# Altium integrated library TI_Logic_Flip-Flop,Latch,Register.IntLib: 2598 symbols (part 113 of 122)
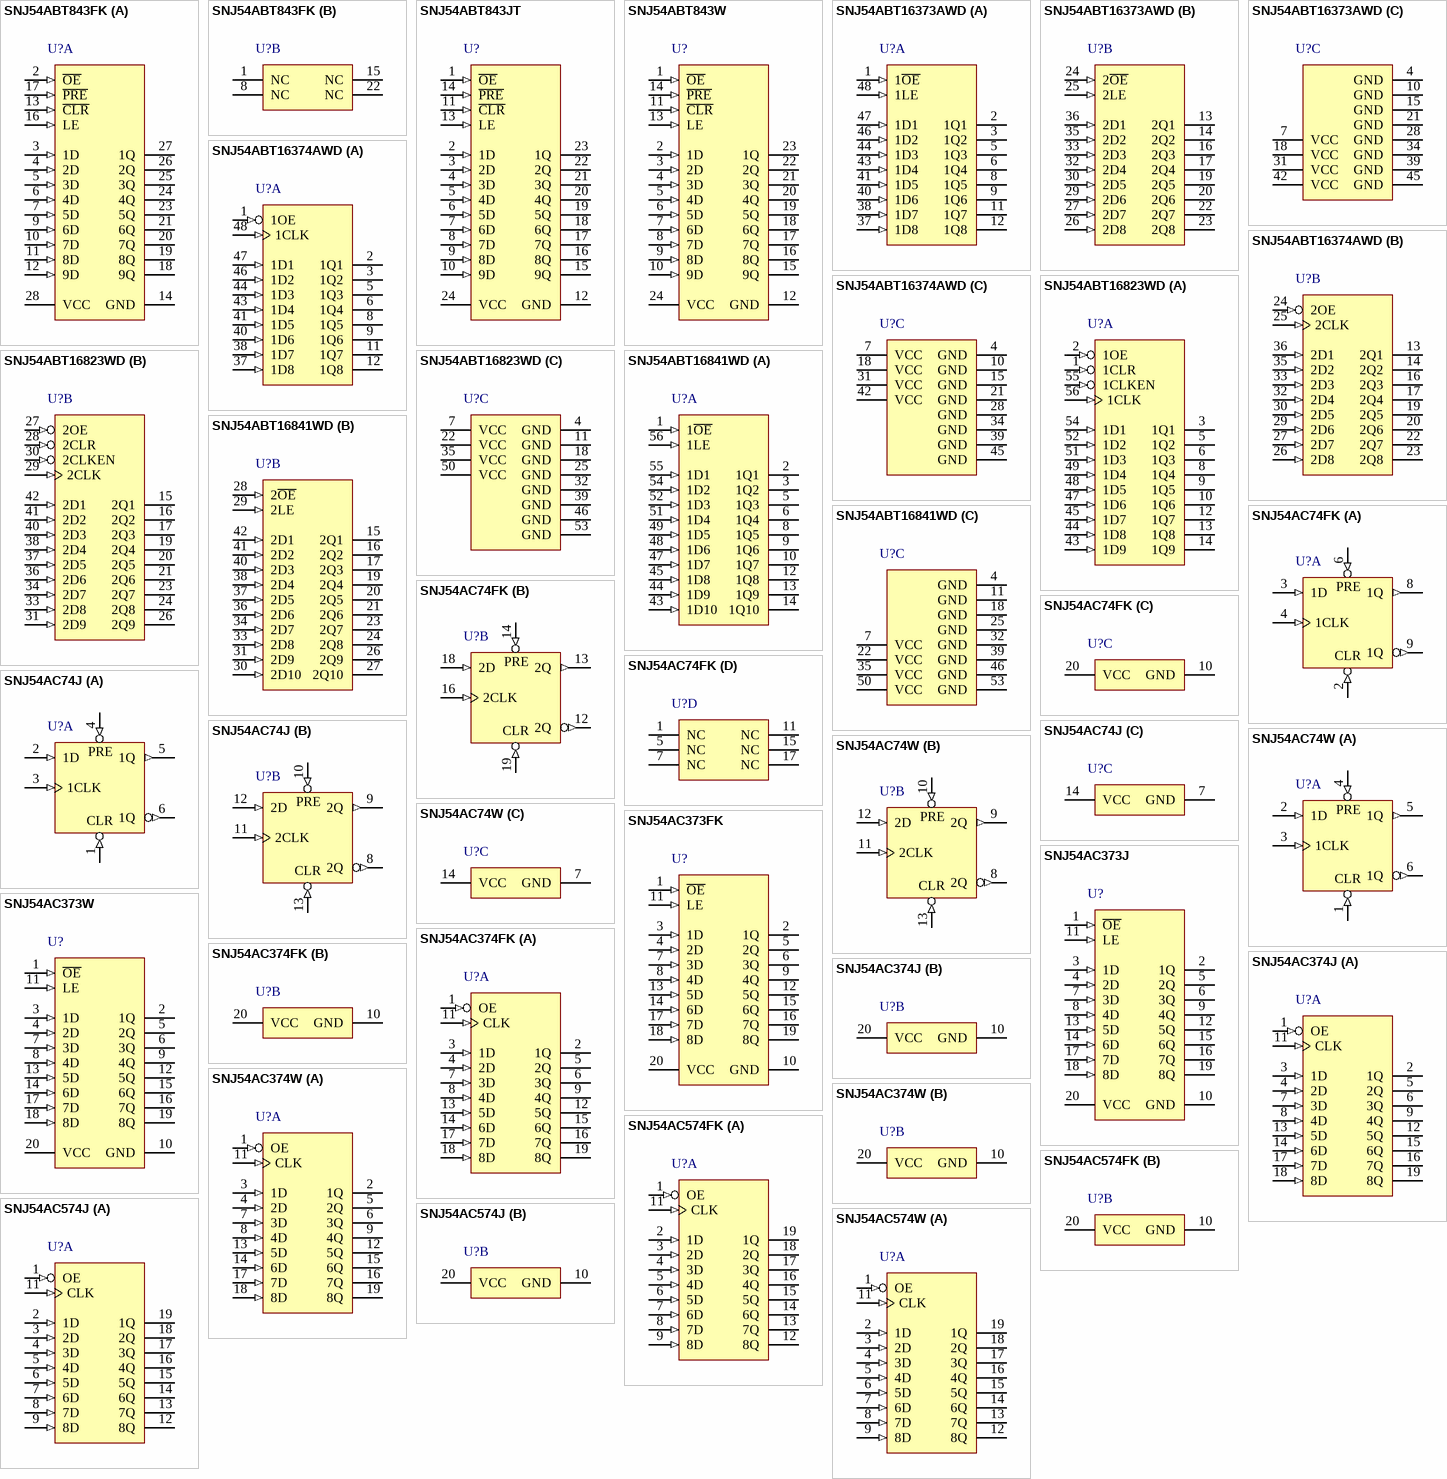
[diagram p251: symbols SNJ54ABT843FK to SNJ54AC574W]

## SNJ54ABT16841WD
designator U?
20-Bit Bus-Interface D-type Latches With 3-State Outputs, WD0056A, TUBE; Generic Part Number: SN54ABT16841; Manufacturer: Texas Instruments; PartNumber: SNJ54ABT16841WD; VCC(Min)(V): 4.5; VCC(Max)(V): 5.5; Output Type: TTL; Logic: True; ICC @ Nom Voltage(Max)(mA): 89; Bits(#): 20; F @ Nom Voltage(Max)(Mhz): 150; Rating: Military; Technology Family: ABT; Schmitt Trigger: No; Output Drive (IOL/IOH)(Max)(mA): 64/-32; Output Logic: Non-inverted; 3-State Output: Yes; tpd @ Nom Voltage(Max)(ns): 5.1; DatasheetVersion: SCBS222C; PackageReference: WD0056A; Input Type: TTL; Operating Temperature Range(C): -55 to 125; ComponentLink1Description: Manufacturer URL; ComponentLink1URL: http://www.ti.com/; ComponentLink2Description: Datasheet; ComponentLink2URL: http://www.ti.com/lit/ds/symlink/sn54abt16841.pdf; ComponentLink3Description: Package Specification; ComponentLink3URL: http://www.ti.com/lit/ml/mcfp010b/mcfp010b.pdf
footprint WD0056A_N (CFP, 56-Leads, Body 18.03x9.91mm, Pitch 0.635mm, IPC Medium Density)
footprint WD0056A_M (CFP, 56-Leads, Body 18.03x9.91mm, Pitch 0.635mm, IPC Low Density)
footprint WD0056A_L (CFP, 56-Leads, Body 18.03x9.91mm, Pitch 0.635mm, IPC High Density)
part A pins: 1 1~{OE} (in) "Output Enable Input (Active LOW)", 2 1Q1 (hiz) "Three-State Outputs", 3 1Q2 (hiz) "Three-State Outputs", 5 1Q3 (hiz) "Three-State Outputs", 6 1Q4 (hiz) "Three-State Outputs", 8 1Q5 (hiz) "Three-State Outputs", 9 1Q6 (hiz) "Three-State Outputs", 10 1Q7 (hiz) "Three-State Outputs", 12 1Q8 (hiz) "Three-State Outputs", 13 1Q9 (hiz) "Three-State Outputs", 14 1Q10 (hiz) "Three-State Outputs", 43 1D10 (in) "Data Inputs", 44 1D9 (in) "Data Inputs", 45 1D8 (in) "Data Inputs", 47 1D7 (in) "Data Inputs", 48 1D6 (in) "Data Inputs", 49 1D5 (in) "Data Inputs", 51 1D4 (in) "Data Inputs", 52 1D3 (in) "Data Inputs", 54 1D2 (in) "Data Inputs", 55 1D1 (in) "Data Inputs", 56 1LE (in) "Latch Enable Input (Active HIGH)"
part B pins: 15 2Q1 (hiz) "Three-State Outputs", 16 2Q2 (hiz) "Three-State Outputs", 17 2Q3 (hiz) "Three-State Outputs", 19 2Q4 (hiz) "Three-State Outputs", 20 2Q5 (hiz) "Three-State Outputs", 21 2Q6 (hiz) "Three-State Outputs", 23 2Q7 (hiz) "Three-State Outputs", 24 2Q8 (hiz) "Three-State Outputs", 26 2Q9 (hiz) "Three-State Outputs", 27 2Q10 (hiz) "Three-State Outputs", 28 2~{OE} (in) "Output Enable Input (Active LOW)", 29 2LE (in) "Latch Enable Input (Active HIGH)", 30 2D10 (in) "Data Inputs", 31 2D9 (in) "Data Inputs", 33 2D8 (in) "Data Inputs", 34 2D7 (in) "Data Inputs", 36 2D6 (in) "Data Inputs", 37 2D5 (in) "Data Inputs", 38 2D4 (in) "Data Inputs", 40 2D3 (in) "Data Inputs", 41 2D2 (in) "Data Inputs", 42 2D1 (in) "Data Inputs"
part C pins: 4 GND (power), 7 VCC (power), 11 GND (power), 18 GND (power), 22 VCC (power), 25 GND (power), 32 GND (power), 35 VCC (power), 39 GND (power), 46 GND (power), 50 VCC (power), 53 GND (power)

## SNJ54AC74FK
designator U?
Dual Positive-Edge-Triggered D-Type- Flip-Flops With Clear And Preset, FK0020A, TUBE; Generic Part Number: SN54AC74; Manufacturer: Texas Instruments; PartNumber: SNJ54AC74FK; VCC(Min)(V): 2; VCC(Max)(V): 6; Output Type: CMOS; Output: 3S; ICC @ Nom Voltage(Max)(mA): 0.02; F @ Nom Voltage(Max)(Mhz): 100; Rating: Military; Technology Family: AC; Voltage(Nom)(V): 3.3,5; Schmitt Trigger: No; Output Drive (IOL/IOH)(Max)(mA): 24/-24; Output Logic: Inverted,Non-inverted; tpd @ Nom Voltage(Max)(ns): 13.5,10.5; DatasheetVersion: SCAS521F; PackageReference: FK0020A; Input Type: CMOS; Bits(#): 2; Operating Temperature Range(C): -55 to 125; 3-State Output: No; Code_JEDEC: MS-004; ComponentLink1Description: Manufacturer URL; ComponentLink1URL: http://www.ti.com/; ComponentLink2Description: Datasheet; ComponentLink2URL: http://www.ti.com/lit/ds/symlink/sn54ac74.pdf; ComponentLink3Description: Package Specification; ComponentLink3URL: http://www.ti.com/lit/ml/mlcc006d/mlcc006d.pdf
footprint FK0020A_N (LCC, 20-Leads, Body 8.9x8.9mm, Pitch 1.27mm, IPC Medium Density)
footprint FK0020A_M (LCC, 20-Leads, Body 8.9x8.9mm, Pitch 1.27mm, IPC Low Density)
footprint FK0020A_L (LCC, 20-Leads, Body 8.9x8.9mm, Pitch 1.27mm, IPC High Density)
part A pins: 2 1~{CLR} (in), 3 1D (in), 4 1CLK (in), 6 1~{PRE} (in), 8 1Q (out), 9 1Q (out)
part B pins: 12 2Q (out), 13 2Q (out), 14 2~{PRE} (in), 16 2CLK (in), 18 2D (in), 19 2~{CLR} (in)
part C pins: 10 GND (power), 20 VCC (power)
part D pins: 1 NC, 5 NC, 7 NC, 11 NC, 15 NC, 17 NC
part A text: PRE; CLR
part B text: PRE; CLR

## SNJ54AC74J
designator U?
Dual Positive-Edge-Triggered D-Type- Flip-Flops With Clear And Preset, J0014A, TUBE; Generic Part Number: SN54AC74; Manufacturer: Texas Instruments; PartNumber: SNJ54AC74J; VCC(Min)(V): 2; VCC(Max)(V): 6; Output Type: CMOS; Output: 3S; ICC @ Nom Voltage(Max)(mA): 0.02; F @ Nom Voltage(Max)(Mhz): 100; Rating: Military; Technology Family: AC; Voltage(Nom)(V): 3.3,5; Schmitt Trigger: No; Output Drive (IOL/IOH)(Max)(mA): 24/-24; Output Logic: Inverted,Non-inverted; tpd @ Nom Voltage(Max)(ns): 13.5,10.5; DatasheetVersion: SCAS521F; PackageReference: J0014A; Input Type: CMOS; Bits(#): 2; Operating Temperature Range(C): -55 to 125; 3-State Output: No; ComponentLink1Description: Manufacturer URL; ComponentLink1URL: http://www.ti.com/; ComponentLink2Description: Datasheet; ComponentLink2URL: http://www.ti.com/lit/ds/symlink/sn54ac74.pdf; ComponentLink3Description: Package Specification; ComponentLink3URL: http://www.ti.com/lit/ml/mcer002d/mcer002d.pdf
footprint J0014A (DIP, 14-Leads, Body 19.95x7.2mm, Pitch 2.54mm)
part A pins: 1 1~{CLR} (in), 2 1D (in), 3 1CLK (in), 4 1~{PRE} (in), 5 1Q (out), 6 1Q (out)
part B pins: 8 2Q (out), 9 2Q (out), 10 2~{PRE} (in), 11 2CLK (in), 12 2D (in), 13 2~{CLR} (in)
part C pins: 7 GND (power), 14 VCC (power)
part A text: PRE; CLR
part B text: PRE; CLR

## SNJ54AC74W
designator U?
Dual Positive-Edge-Triggered D-Type- Flip-Flops With Clear And Preset, W0014A, TUBE; Generic Part Number: SN54AC74; Manufacturer: Texas Instruments; PartNumber: SNJ54AC74W; VCC(Min)(V): 2; VCC(Max)(V): 6; Output Type: CMOS; Output: 3S; ICC @ Nom Voltage(Max)(mA): 0.02; F @ Nom Voltage(Max)(Mhz): 100; Rating: Military; Technology Family: AC; Voltage(Nom)(V): 3.3,5; Schmitt Trigger: No; Output Drive (IOL/IOH)(Max)(mA): 24/-24; Output Logic: Inverted,Non-inverted; tpd @ Nom Voltage(Max)(ns): 13.5,10.5; DatasheetVersion: SCAS521F; PackageReference: W0014A; Input Type: CMOS; Bits(#): 2; Operating Temperature Range(C): -55 to 125; 3-State Output: No; ComponentLink1Description: Manufacturer URL; ComponentLink1URL: http://www.ti.com/; ComponentLink2Description: Datasheet; ComponentLink2URL: http://www.ti.com/lit/ds/symlink/sn54ac74.pdf; ComponentLink3Description: Package Specification; ComponentLink3URL: http://www.ti.com/lit/ml/mcfp002c/mcfp002c.pdf
footprint W0014A_N (CFP, 14-Leads, Body 9.91x6.6mm, Pitch 1.27mm, IPC Medium Density)
footprint W0014A_M (CFP, 14-Leads, Body 9.91x6.6mm, Pitch 1.27mm, IPC Low Density)
footprint W0014A_L (CFP, 14-Leads, Body 9.91x6.6mm, Pitch 1.27mm, IPC High Density)
part A pins: 1 1~{CLR} (in), 2 1D (in), 3 1CLK (in), 4 1~{PRE} (in), 5 1Q (out), 6 1Q (out)
part B pins: 8 2Q (out), 9 2Q (out), 10 2~{PRE} (in), 11 2CLK (in), 12 2D (in), 13 2~{CLR} (in)
part C pins: 7 GND (power), 14 VCC (power)
part A text: PRE; CLR
part B text: PRE; CLR

## SNJ54AC373FK
designator U?
Octal D-type Transparent Latches With 3-State Outputs, FK0020A, TUBE; Generic Part Number: SN54AC373; Manufacturer: Texas Instruments; PartNumber: SNJ54AC373FK; VCC(Min)(V): 2; VCC(Max)(V): 6; Output Type: CMOS; Logic: True; ICC @ Nom Voltage(Max)(mA): 0.08; Bits(#): 8; F @ Nom Voltage(Max)(Mhz): 100; Rating: Military; Technology Family: AC; Voltage(Nom)(V): 3.3,5; Schmitt Trigger: No; Output Drive (IOL/IOH)(Max)(mA): 24/-24; Output Logic: Non-inverted; 3-State Output: Yes; tpd @ Nom Voltage(Max)(ns): 15,10.5; DatasheetVersion: SCAS540D; PackageReference: FK0020A; Input Type: CMOS; Operating Temperature Range(C): -55 to 125; Code_JEDEC: MS-004; ComponentLink1Description: Manufacturer URL; ComponentLink1URL: http://www.ti.com/; ComponentLink2Description: Datasheet; ComponentLink2URL: http://www.ti.com/lit/ds/symlink/sn54ac373.pdf; ComponentLink3Description: Package Specification; ComponentLink3URL: http://www.ti.com/lit/ml/mlcc006d/mlcc006d.pdf
footprint FK0020A_N (LCC, 20-Leads, Body 8.9x8.9mm, Pitch 1.27mm, IPC Medium Density)
footprint FK0020A_M (LCC, 20-Leads, Body 8.9x8.9mm, Pitch 1.27mm, IPC Low Density)
footprint FK0020A_L (LCC, 20-Leads, Body 8.9x8.9mm, Pitch 1.27mm, IPC High Density)
pins: 1 ~{OE} (in) "Output Enable", 2 1Q (hiz) "1Q Output", 3 1D (in) "1D Input", 4 2D (in) "2D Input", 5 2Q (hiz) "2Q Output", 6 3Q (hiz) "3Q Output", 7 3D (in) "3D Input", 8 4D (in) "4D Input", 9 4Q (hiz) "4Q Output", 10 GND (power) "Ground Pin", 11 LE (in) "Latch Enable", 12 5Q (hiz) "5Q Output", 13 5D (in) "5D Input", 14 6D (in) "6D Input", 15 6Q (hiz) "6Q Output", 16 7Q (hiz) "7Q Output", 17 7D (in) "7D Input", 18 8D (in) "8D Input", 19 8Q (hiz) "8Q Output", 20 VCC (power) "Power Pin"

## SNJ54AC373J
designator U?
Octal D-type Transparent Latches With 3-State Outputs, J0020A, TUBE; Generic Part Number: SN54AC373; Manufacturer: Texas Instruments; PartNumber: SNJ54AC373J; VCC(Min)(V): 2; VCC(Max)(V): 6; Output Type: CMOS; Logic: True; ICC @ Nom Voltage(Max)(mA): 0.08; Bits(#): 8; F @ Nom Voltage(Max)(Mhz): 100; Rating: Military; Technology Family: AC; Voltage(Nom)(V): 3.3,5; Schmitt Trigger: No; Output Drive (IOL/IOH)(Max)(mA): 24/-24; Output Logic: Non-inverted; 3-State Output: Yes; tpd @ Nom Voltage(Max)(ns): 15,10.5; DatasheetVersion: SCAS540D; PackageReference: J0020A; Input Type: CMOS; Operating Temperature Range(C): -55 to 125; ComponentLink1Description: Manufacturer URL; ComponentLink1URL: http://www.ti.com/; ComponentLink2Description: Datasheet; ComponentLink2URL: http://www.ti.com/lit/ds/symlink/sn54ac373.pdf; ComponentLink3Description: Package Specification; ComponentLink3URL: http://www.ti.com/lit/ml/mcer002d/mcer002d.pdf
footprint J0020A (DIP, 20-Leads, Body 26.9x7.2mm, Pitch 2.54mm)
pins: 1 ~{OE} (in) "Output Enable", 2 1Q (hiz) "1Q Output", 3 1D (in) "1D Input", 4 2D (in) "2D Input", 5 2Q (hiz) "2Q Output", 6 3Q (hiz) "3Q Output", 7 3D (in) "3D Input", 8 4D (in) "4D Input", 9 4Q (hiz) "4Q Output", 10 GND (power) "Ground Pin", 11 LE (in) "Latch Enable", 12 5Q (hiz) "5Q Output", 13 5D (in) "5D Input", 14 6D (in) "6D Input", 15 6Q (hiz) "6Q Output", 16 7Q (hiz) "7Q Output", 17 7D (in) "7D Input", 18 8D (in) "8D Input", 19 8Q (hiz) "8Q Output", 20 VCC (power) "Power Pin"

## SNJ54AC373W
designator U?
Octal D-type Transparent Latches With 3-State Outputs, W0020A, TUBE; Generic Part Number: SN54AC373; Manufacturer: Texas Instruments; PartNumber: SNJ54AC373W; VCC(Min)(V): 2; VCC(Max)(V): 6; Output Type: CMOS; Logic: True; ICC @ Nom Voltage(Max)(mA): 0.08; Bits(#): 8; F @ Nom Voltage(Max)(Mhz): 100; Rating: Military; Technology Family: AC; Voltage(Nom)(V): 3.3,5; Schmitt Trigger: No; Output Drive (IOL/IOH)(Max)(mA): 24/-24; Output Logic: Non-inverted; 3-State Output: Yes; tpd @ Nom Voltage(Max)(ns): 15,10.5; DatasheetVersion: SCAS540D; PackageReference: W0020A; Input Type: CMOS; Operating Temperature Range(C): -55 to 125; ComponentLink1Description: Manufacturer URL; ComponentLink1URL: http://www.ti.com/; ComponentLink2Description: Datasheet; ComponentLink2URL: http://www.ti.com/lit/ds/symlink/sn54ac373.pdf; ComponentLink3Description: Package Specification; ComponentLink3URL: http://www.ti.com/lit/ml/mcfp006d/mcfp006d.pdf
footprint W0020A_N (CFP, 20-Leads, Body 13.72x7.62mm, Pitch 1.27mm, IPC Medium Density)
footprint W0020A_M (CFP, 20-Leads, Body 13.72x7.62mm, Pitch 1.27mm, IPC Low Density)
footprint W0020A_L (CFP, 20-Leads, Body 13.72x7.62mm, Pitch 1.27mm, IPC High Density)
pins: 1 ~{OE} (in) "Output Enable", 2 1Q (hiz) "1Q Output", 3 1D (in) "1D Input", 4 2D (in) "2D Input", 5 2Q (hiz) "2Q Output", 6 3Q (hiz) "3Q Output", 7 3D (in) "3D Input", 8 4D (in) "4D Input", 9 4Q (hiz) "4Q Output", 10 GND (power) "Ground Pin", 11 LE (in) "Latch Enable", 12 5Q (hiz) "5Q Output", 13 5D (in) "5D Input", 14 6D (in) "6D Input", 15 6Q (hiz) "6Q Output", 16 7Q (hiz) "7Q Output", 17 7D (in) "7D Input", 18 8D (in) "8D Input", 19 8Q (hiz) "8Q Output", 20 VCC (power) "Power Pin"

## SNJ54AC374FK
designator U?
Octal D-Type Edge-Triggered Flip-Flops with 3-State Outputs, FK0020A, TUBE; Generic Part Number: SN54AC374; Manufacturer: Texas Instruments; PartNumber: SNJ54AC374FK; VCC(Min)(V): 2; VCC(Max)(V): 6; Output Type: CMOS; ICC @ Nom Voltage(Max)(mA): 0.04; Bits(#): 8; F @ Nom Voltage(Max)(Mhz): 100; Rating: Military; Technology Family: AC; Voltage(Nom)(V): 3.3,5; Schmitt Trigger: No; Output Drive (IOL/IOH)(Max)(mA): 24/-24; Output Logic: Non-inverted; 3-State Output: Yes; tpd @ Nom Voltage(Max)(ns): 14,10.5; DatasheetVersion: SCAS543E; PackageReference: FK0020A; Input Type: CMOS; Operating Temperature Range(C): -55 to 125; Code_JEDEC: MS-004; ComponentLink1Description: Manufacturer URL; ComponentLink1URL: http://www.ti.com/; ComponentLink2Description: Datasheet; ComponentLink2URL: http://www.ti.com/lit/ds/symlink/sn54ac374.pdf; ComponentLink3Description: Package Specification; ComponentLink3URL: http://www.ti.com/lit/ml/mlcc006d/mlcc006d.pdf
footprint FK0020A_N (LCC, 20-Leads, Body 8.9x8.9mm, Pitch 1.27mm, IPC Medium Density)
footprint FK0020A_M (LCC, 20-Leads, Body 8.9x8.9mm, Pitch 1.27mm, IPC Low Density)
footprint FK0020A_L (LCC, 20-Leads, Body 8.9x8.9mm, Pitch 1.27mm, IPC High Density)
part A pins: 1 OE (in), 2 1Q (hiz), 3 1D (in), 4 2D (in), 5 2Q (hiz), 6 3Q (hiz), 7 3D (in), 8 4D (in), 9 4Q (hiz), 11 CLK (in), 12 5Q (hiz), 13 5D (in), 14 6D (in), 15 6Q (hiz), 16 7Q (hiz), 17 7D (in), 18 8D (in), 19 8Q (hiz)
part B pins: 10 GND (power), 20 VCC (power)

## SNJ54AC374J
designator U?
Octal D-Type Edge-Triggered Flip-Flops with 3-State Outputs, J0020A, TUBE; Generic Part Number: SN54AC374; Manufacturer: Texas Instruments; PartNumber: SNJ54AC374J; VCC(Min)(V): 2; VCC(Max)(V): 6; Output Type: CMOS; ICC @ Nom Voltage(Max)(mA): 0.04; Bits(#): 8; F @ Nom Voltage(Max)(Mhz): 100; Rating: Military; Technology Family: AC; Voltage(Nom)(V): 3.3,5; Schmitt Trigger: No; Output Drive (IOL/IOH)(Max)(mA): 24/-24; Output Logic: Non-inverted; 3-State Output: Yes; tpd @ Nom Voltage(Max)(ns): 14,10.5; DatasheetVersion: SCAS543E; PackageReference: J0020A; Input Type: CMOS; Operating Temperature Range(C): -55 to 125; ComponentLink1Description: Manufacturer URL; ComponentLink1URL: http://www.ti.com/; ComponentLink2Description: Datasheet; ComponentLink2URL: http://www.ti.com/lit/ds/symlink/sn54ac374.pdf; ComponentLink3Description: Package Specification; ComponentLink3URL: http://www.ti.com/lit/ml/mcer002d/mcer002d.pdf
footprint J0020A (DIP, 20-Leads, Body 26.9x7.2mm, Pitch 2.54mm)
part A pins: 1 OE (in), 2 1Q (hiz), 3 1D (in), 4 2D (in), 5 2Q (hiz), 6 3Q (hiz), 7 3D (in), 8 4D (in), 9 4Q (hiz), 11 CLK (in), 12 5Q (hiz), 13 5D (in), 14 6D (in), 15 6Q (hiz), 16 7Q (hiz), 17 7D (in), 18 8D (in), 19 8Q (hiz)
part B pins: 10 GND (power), 20 VCC (power)

## SNJ54AC374W
designator U?
Octal D-Type Edge-Triggered Flip-Flops with 3-State Outputs, W0020A, TUBE; Generic Part Number: SN54AC374; Manufacturer: Texas Instruments; PartNumber: SNJ54AC374W; VCC(Min)(V): 2; VCC(Max)(V): 6; Output Type: CMOS; ICC @ Nom Voltage(Max)(mA): 0.04; Bits(#): 8; F @ Nom Voltage(Max)(Mhz): 100; Rating: Military; Technology Family: AC; Voltage(Nom)(V): 3.3,5; Schmitt Trigger: No; Output Drive (IOL/IOH)(Max)(mA): 24/-24; Output Logic: Non-inverted; 3-State Output: Yes; tpd @ Nom Voltage(Max)(ns): 14,10.5; DatasheetVersion: SCAS543E; PackageReference: W0020A; Input Type: CMOS; Operating Temperature Range(C): -55 to 125; ComponentLink1Description: Manufacturer URL; ComponentLink1URL: http://www.ti.com/; ComponentLink2Description: Datasheet; ComponentLink2URL: http://www.ti.com/lit/ds/symlink/sn54ac374.pdf; ComponentLink3Description: Package Specification; ComponentLink3URL: http://www.ti.com/lit/ml/mcfp006d/mcfp006d.pdf
footprint W0020A_N (CFP, 20-Leads, Body 13.72x7.62mm, Pitch 1.27mm, IPC Medium Density)
footprint W0020A_M (CFP, 20-Leads, Body 13.72x7.62mm, Pitch 1.27mm, IPC Low Density)
footprint W0020A_L (CFP, 20-Leads, Body 13.72x7.62mm, Pitch 1.27mm, IPC High Density)
part A pins: 1 OE (in), 2 1Q (hiz), 3 1D (in), 4 2D (in), 5 2Q (hiz), 6 3Q (hiz), 7 3D (in), 8 4D (in), 9 4Q (hiz), 11 CLK (in), 12 5Q (hiz), 13 5D (in), 14 6D (in), 15 6Q (hiz), 16 7Q (hiz), 17 7D (in), 18 8D (in), 19 8Q (hiz)
part B pins: 10 GND (power), 20 VCC (power)

## SNJ54AC574FK
designator U?
Octal D-type Edge-Triggered Flip-Flops with 3-State Outputs, FK0020A, TUBE; Generic Part Number: SN54AC574; Manufacturer: Texas Instruments; PartNumber: SNJ54AC574FK; VCC(Min)(V): 2; VCC(Max)(V): 6; Output Type: CMOS; ICC @ Nom Voltage(Max)(mA): 0.04; Bits(#): 8; F @ Nom Voltage(Max)(Mhz): 100; Rating: Military; Technology Family: AC; Voltage(Nom)(V): 3.3,5; Schmitt Trigger: No; Output Drive (IOL/IOH)(Max)(mA): 24/-24; Output Logic: Non-inverted; 3-State Output: Yes; tpd @ Nom Voltage(Max)(ns): 15,11; DatasheetVersion: SCAS541E; PackageReference: FK0020A; Input Type: CMOS; Operating Temperature Range(C): -55 to 125; Code_JEDEC: MS-004; ComponentLink1Description: Manufacturer URL; ComponentLink1URL: http://www.ti.com/; ComponentLink2Description: Datasheet; ComponentLink2URL: http://www.ti.com/lit/ds/symlink/sn54ac574.pdf; ComponentLink3Description: Package Specification; ComponentLink3URL: http://www.ti.com/lit/ml/mlcc006d/mlcc006d.pdf
footprint FK0020A_N (LCC, 20-Leads, Body 8.9x8.9mm, Pitch 1.27mm, IPC Medium Density)
footprint FK0020A_M (LCC, 20-Leads, Body 8.9x8.9mm, Pitch 1.27mm, IPC Low Density)
footprint FK0020A_L (LCC, 20-Leads, Body 8.9x8.9mm, Pitch 1.27mm, IPC High Density)
part A pins: 1 OE (in), 2 1D (in), 3 2D (in), 4 3D (in), 5 4D (in), 6 5D (in), 7 6D (in), 8 7D (in), 9 8D (in), 11 CLK (in), 12 8Q (hiz), 13 7Q (hiz), 14 6Q (hiz), 15 5Q (hiz), 16 4Q (hiz), 17 3Q (hiz), 18 2Q (hiz), 19 1Q (hiz)
part B pins: 10 GND (power), 20 VCC (power)

## SNJ54AC574J
designator U?
Octal D-type Edge-Triggered Flip-Flops with 3-State Outputs, J0020A, TUBE; Generic Part Number: SN54AC574; Manufacturer: Texas Instruments; PartNumber: SNJ54AC574J; VCC(Min)(V): 2; VCC(Max)(V): 6; Output Type: CMOS; ICC @ Nom Voltage(Max)(mA): 0.04; Bits(#): 8; F @ Nom Voltage(Max)(Mhz): 100; Rating: Military; Technology Family: AC; Voltage(Nom)(V): 3.3,5; Schmitt Trigger: No; Output Drive (IOL/IOH)(Max)(mA): 24/-24; Output Logic: Non-inverted; 3-State Output: Yes; tpd @ Nom Voltage(Max)(ns): 15,11; DatasheetVersion: SCAS541E; PackageReference: J0020A; Input Type: CMOS; Operating Temperature Range(C): -55 to 125; ComponentLink1Description: Manufacturer URL; ComponentLink1URL: http://www.ti.com/; ComponentLink2Description: Datasheet; ComponentLink2URL: http://www.ti.com/lit/ds/symlink/sn54ac574.pdf; ComponentLink3Description: Package Specification; ComponentLink3URL: http://www.ti.com/lit/ml/mcer002d/mcer002d.pdf
footprint J0020A (DIP, 20-Leads, Body 26.9x7.2mm, Pitch 2.54mm)
part A pins: 1 OE (in), 2 1D (in), 3 2D (in), 4 3D (in), 5 4D (in), 6 5D (in), 7 6D (in), 8 7D (in), 9 8D (in), 11 CLK (in), 12 8Q (hiz), 13 7Q (hiz), 14 6Q (hiz), 15 5Q (hiz), 16 4Q (hiz), 17 3Q (hiz), 18 2Q (hiz), 19 1Q (hiz)
part B pins: 10 GND (power), 20 VCC (power)

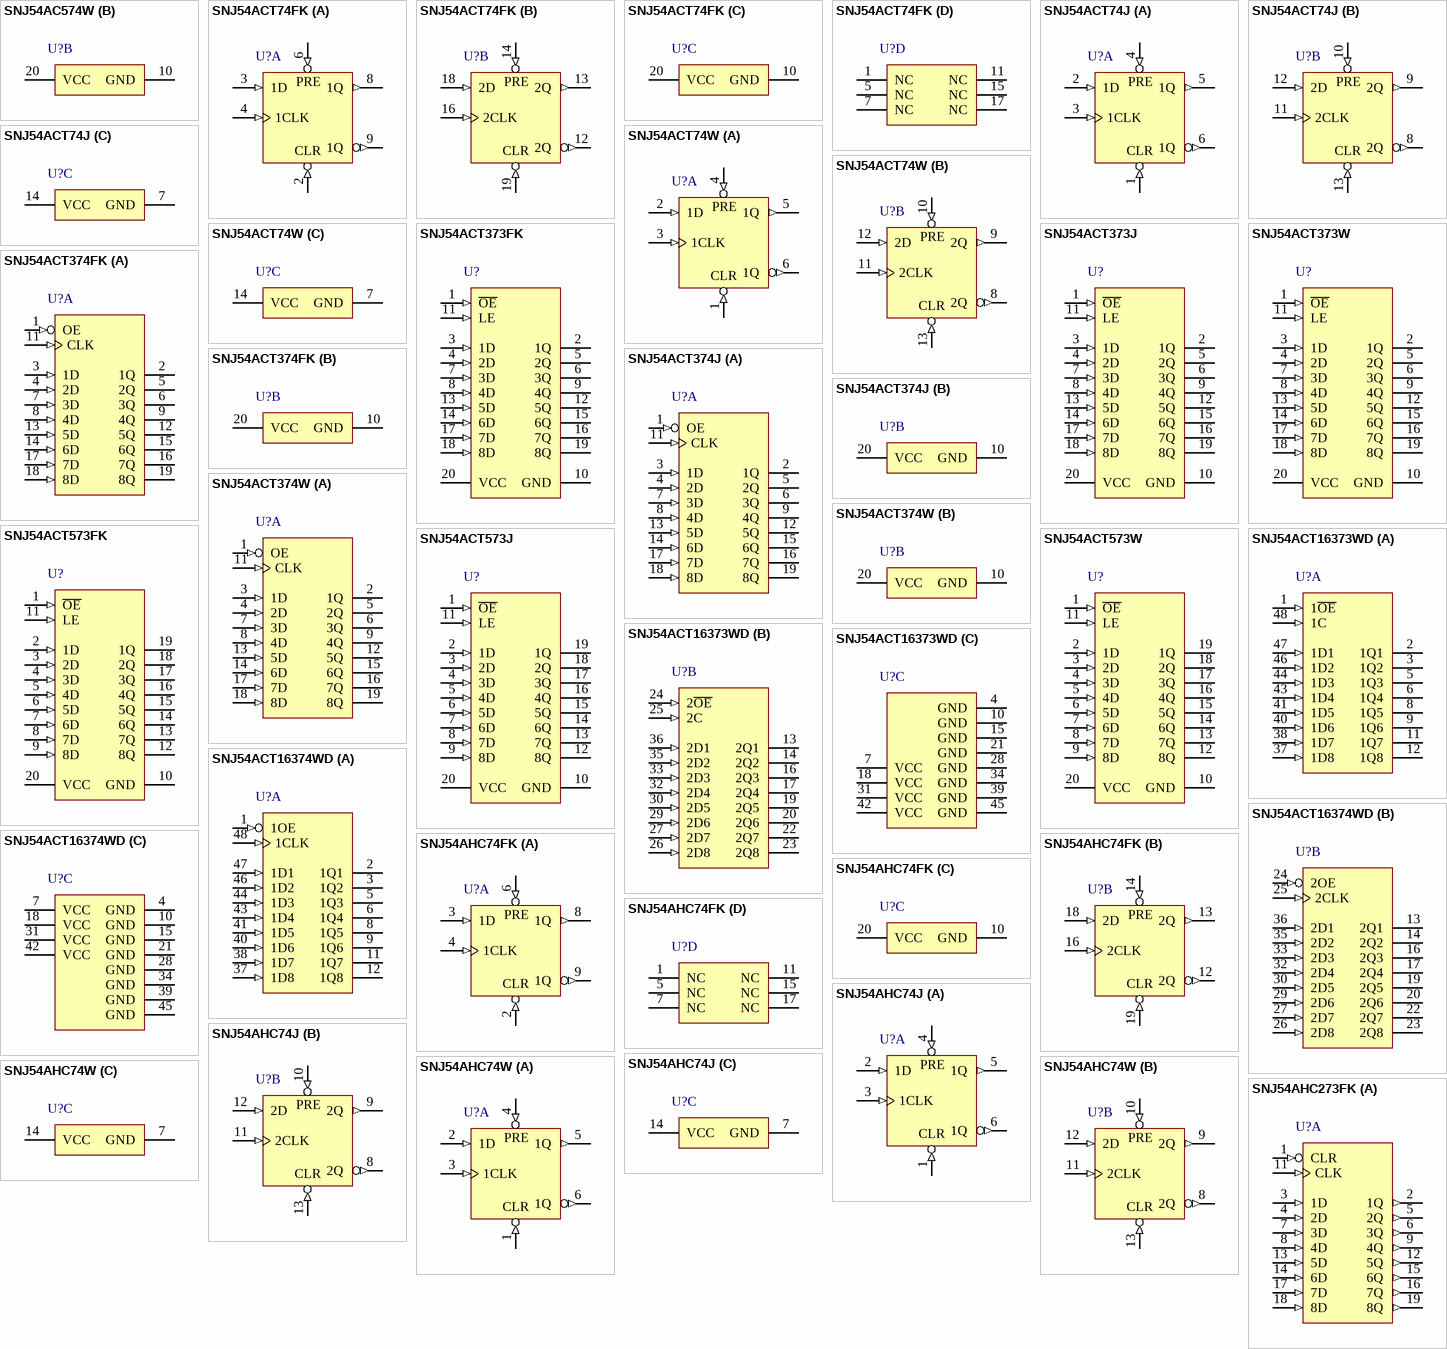
[diagram p123: symbols SNJ54AC574W to SNJ54AHC273FK]

## SNJ54AC574W
designator U?
Octal D-type Edge-Triggered Flip-Flops with 3-State Outputs, W0020A, TUBE; Generic Part Number: SN54AC574; Manufacturer: Texas Instruments; PartNumber: SNJ54AC574W; VCC(Min)(V): 2; VCC(Max)(V): 6; Output Type: CMOS; ICC @ Nom Voltage(Max)(mA): 0.04; Bits(#): 8; F @ Nom Voltage(Max)(Mhz): 100; Rating: Military; Technology Family: AC; Voltage(Nom)(V): 3.3,5; Schmitt Trigger: No; Output Drive (IOL/IOH)(Max)(mA): 24/-24; Output Logic: Non-inverted; 3-State Output: Yes; tpd @ Nom Voltage(Max)(ns): 15,11; DatasheetVersion: SCAS541E; PackageReference: W0020A; Input Type: CMOS; Operating Temperature Range(C): -55 to 125; ComponentLink1Description: Manufacturer URL; ComponentLink1URL: http://www.ti.com/; ComponentLink2Description: Datasheet; ComponentLink2URL: http://www.ti.com/lit/ds/symlink/sn54ac574.pdf; ComponentLink3Description: Package Specification; ComponentLink3URL: http://www.ti.com/lit/ml/mcfp006d/mcfp006d.pdf
footprint W0020A_N (CFP, 20-Leads, Body 13.72x7.62mm, Pitch 1.27mm, IPC Medium Density)
footprint W0020A_M (CFP, 20-Leads, Body 13.72x7.62mm, Pitch 1.27mm, IPC Low Density)
footprint W0020A_L (CFP, 20-Leads, Body 13.72x7.62mm, Pitch 1.27mm, IPC High Density)
part A pins: 1 OE (in), 2 1D (in), 3 2D (in), 4 3D (in), 5 4D (in), 6 5D (in), 7 6D (in), 8 7D (in), 9 8D (in), 11 CLK (in), 12 8Q (hiz), 13 7Q (hiz), 14 6Q (hiz), 15 5Q (hiz), 16 4Q (hiz), 17 3Q (hiz), 18 2Q (hiz), 19 1Q (hiz)
part B pins: 10 GND (power), 20 VCC (power)

## SNJ54ACT74FK
designator U?
Dual Positive-Edge-Triggered D-type Flip-Flops With Clear And Preset, FK0020A, TUBE; Generic Part Number: SN54ACT74; Manufacturer: Texas Instruments; PartNumber: SNJ54ACT74FK; VCC(Min)(V): 4.5; VCC(Max)(V): 5.5; Output Type: CMOS; Output: 3S; ICC @ Nom Voltage(Max)(mA): 0.02; Input Type: TTL; Bits(#): 2; F @ Nom Voltage(Max)(Mhz): 100; Rating: Military; Technology Family: ACT; Schmitt Trigger: No; Output Drive (IOL/IOH)(Max)(mA): 24/-24; Output Logic: Inverted,Non-inverted; tpd @ Nom Voltage(Max)(ns): 13; DatasheetVersion: SCAS520H; PackageReference: FK0020A; Operating Temperature Range(C): -55 to 125; 3-State Output: No; Code_JEDEC: MS-004; ComponentLink1Description: Manufacturer URL; ComponentLink1URL: http://www.ti.com/; ComponentLink2Description: Datasheet; ComponentLink2URL: http://www.ti.com/lit/ds/symlink/sn54act74.pdf; ComponentLink3Description: Package Specification; ComponentLink3URL: http://www.ti.com/lit/ml/mlcc006d/mlcc006d.pdf
footprint FK0020A_N (LCC, 20-Leads, Body 8.9x8.9mm, Pitch 1.27mm, IPC Medium Density)
footprint FK0020A_M (LCC, 20-Leads, Body 8.9x8.9mm, Pitch 1.27mm, IPC Low Density)
footprint FK0020A_L (LCC, 20-Leads, Body 8.9x8.9mm, Pitch 1.27mm, IPC High Density)
part A pins: 2 1~{CLR} (in), 3 1D (in), 4 1CLK (in), 6 1~{PRE} (in), 8 1Q (out), 9 1Q (out)
part B pins: 12 2Q (out), 13 2Q (out), 14 2~{PRE} (in), 16 2CLK (in), 18 2D (in), 19 2~{CLR} (in)
part C pins: 10 GND (power), 20 VCC (power)
part D pins: 1 NC, 5 NC, 7 NC, 11 NC, 15 NC, 17 NC
part A text: PRE; CLR
part B text: PRE; CLR

## SNJ54ACT74J
designator U?
Dual Positive-Edge-Triggered D-type Flip-Flops With Clear And Preset, J0014A, TUBE; Generic Part Number: SN54ACT74; Manufacturer: Texas Instruments; PartNumber: SNJ54ACT74J; VCC(Min)(V): 4.5; VCC(Max)(V): 5.5; Output Type: CMOS; Output: 3S; ICC @ Nom Voltage(Max)(mA): 0.02; Input Type: TTL; Bits(#): 2; F @ Nom Voltage(Max)(Mhz): 100; Rating: Military; Technology Family: ACT; Schmitt Trigger: No; Output Drive (IOL/IOH)(Max)(mA): 24/-24; Output Logic: Inverted,Non-inverted; tpd @ Nom Voltage(Max)(ns): 13; DatasheetVersion: SCAS520H; PackageReference: J0014A; Operating Temperature Range(C): -55 to 125; 3-State Output: No; ComponentLink1Description: Manufacturer URL; ComponentLink1URL: http://www.ti.com/; ComponentLink2Description: Datasheet; ComponentLink2URL: http://www.ti.com/lit/ds/symlink/sn54act74.pdf; ComponentLink3Description: Package Specification; ComponentLink3URL: http://www.ti.com/lit/ml/mcer002d/mcer002d.pdf
footprint J0014A (DIP, 14-Leads, Body 19.95x7.2mm, Pitch 2.54mm)
part A pins: 1 1~{CLR} (in), 2 1D (in), 3 1CLK (in), 4 1~{PRE} (in), 5 1Q (out), 6 1Q (out)
part B pins: 8 2Q (out), 9 2Q (out), 10 2~{PRE} (in), 11 2CLK (in), 12 2D (in), 13 2~{CLR} (in)
part C pins: 7 GND (power), 14 VCC (power)
part A text: PRE; CLR
part B text: PRE; CLR

## SNJ54ACT74W
designator U?
Dual Positive-Edge-Triggered D-type Flip-Flops With Clear And Preset, W0014A, TUBE; Generic Part Number: SN54ACT74; Manufacturer: Texas Instruments; PartNumber: SNJ54ACT74W; VCC(Min)(V): 4.5; VCC(Max)(V): 5.5; Output Type: CMOS; Output: 3S; ICC @ Nom Voltage(Max)(mA): 0.02; Input Type: TTL; Bits(#): 2; F @ Nom Voltage(Max)(Mhz): 100; Rating: Military; Technology Family: ACT; Schmitt Trigger: No; Output Drive (IOL/IOH)(Max)(mA): 24/-24; Output Logic: Inverted,Non-inverted; tpd @ Nom Voltage(Max)(ns): 13; DatasheetVersion: SCAS520H; PackageReference: W0014A; Operating Temperature Range(C): -55 to 125; 3-State Output: No; ComponentLink1Description: Manufacturer URL; ComponentLink1URL: http://www.ti.com/; ComponentLink2Description: Datasheet; ComponentLink2URL: http://www.ti.com/lit/ds/symlink/sn54act74.pdf; ComponentLink3Description: Package Specification; ComponentLink3URL: http://www.ti.com/lit/ml/mcfp002c/mcfp002c.pdf
footprint W0014A_N (CFP, 14-Leads, Body 9.91x6.6mm, Pitch 1.27mm, IPC Medium Density)
footprint W0014A_M (CFP, 14-Leads, Body 9.91x6.6mm, Pitch 1.27mm, IPC Low Density)
footprint W0014A_L (CFP, 14-Leads, Body 9.91x6.6mm, Pitch 1.27mm, IPC High Density)
part A pins: 1 1~{CLR} (in), 2 1D (in), 3 1CLK (in), 4 1~{PRE} (in), 5 1Q (out), 6 1Q (out)
part B pins: 8 2Q (out), 9 2Q (out), 10 2~{PRE} (in), 11 2CLK (in), 12 2D (in), 13 2~{CLR} (in)
part C pins: 7 GND (power), 14 VCC (power)
part A text: PRE; CLR
part B text: PRE; CLR

## SNJ54ACT373FK
designator U?
Octal D-type Transparent Latches With 3-State Outputs, FK0020A, TUBE; Generic Part Number: SN54ACT373; Manufacturer: Texas Instruments; PartNumber: SNJ54ACT373FK; VCC(Min)(V): 4.5; VCC(Max)(V): 5.5; Output Type: CMOS; Logic: True; ICC @ Nom Voltage(Max)(mA): 0.04; Input Type: TTL; Bits(#): 8; F @ Nom Voltage(Max)(Mhz): 90; Rating: Military; Technology Family: ACT; Schmitt Trigger: No; Output Drive (IOL/IOH)(Max)(mA): 24/-24; Output Logic: Non-inverted; 3-State Output: Yes; tpd @ Nom Voltage(Max)(ns): 11.5; DatasheetVersion: SCAS544E; PackageReference: FK0020A; Operating Temperature Range(C): -55 to 125; Code_JEDEC: MS-004; ComponentLink1Description: Manufacturer URL; ComponentLink1URL: http://www.ti.com/; ComponentLink2Description: Datasheet; ComponentLink2URL: http://www.ti.com/lit/ds/symlink/sn54act373.pdf; ComponentLink3Description: Package Specification; ComponentLink3URL: http://www.ti.com/lit/ml/mlcc006d/mlcc006d.pdf
footprint FK0020A_N (LCC, 20-Leads, Body 8.9x8.9mm, Pitch 1.27mm, IPC Medium Density)
footprint FK0020A_M (LCC, 20-Leads, Body 8.9x8.9mm, Pitch 1.27mm, IPC Low Density)
footprint FK0020A_L (LCC, 20-Leads, Body 8.9x8.9mm, Pitch 1.27mm, IPC High Density)
pins: 1 ~{OE} (in) "Output Enable", 2 1Q (hiz) "1Q Output", 3 1D (in) "1D Input", 4 2D (in) "2D Input", 5 2Q (hiz) "2Q Output", 6 3Q (hiz) "3Q Output", 7 3D (in) "3D Input", 8 4D (in) "4D Input", 9 4Q (hiz) "4Q Output", 10 GND (power) "Ground Pin", 11 LE (in) "Latch Enable", 12 5Q (hiz) "5Q Output", 13 5D (in) "5D Input", 14 6D (in) "6D Input", 15 6Q (hiz) "6Q Output", 16 7Q (hiz) "7Q Output", 17 7D (in) "7D Input", 18 8D (in) "8D Input", 19 8Q (hiz) "8Q Output", 20 VCC (power) "Power Pin"

## SNJ54ACT373J
designator U?
Octal D-type Transparent Latches With 3-State Outputs, J0020A, TUBE; Generic Part Number: SN54ACT373; Manufacturer: Texas Instruments; PartNumber: SNJ54ACT373J; VCC(Min)(V): 4.5; VCC(Max)(V): 5.5; Output Type: CMOS; Logic: True; ICC @ Nom Voltage(Max)(mA): 0.04; Input Type: TTL; Bits(#): 8; F @ Nom Voltage(Max)(Mhz): 90; Rating: Military; Technology Family: ACT; Schmitt Trigger: No; Output Drive (IOL/IOH)(Max)(mA): 24/-24; Output Logic: Non-inverted; 3-State Output: Yes; tpd @ Nom Voltage(Max)(ns): 11.5; DatasheetVersion: SCAS544E; PackageReference: J0020A; Operating Temperature Range(C): -55 to 125; ComponentLink1Description: Manufacturer URL; ComponentLink1URL: http://www.ti.com/; ComponentLink2Description: Datasheet; ComponentLink2URL: http://www.ti.com/lit/ds/symlink/sn54act373.pdf; ComponentLink3Description: Package Specification; ComponentLink3URL: http://www.ti.com/lit/ml/mcer002d/mcer002d.pdf
footprint J0020A (DIP, 20-Leads, Body 26.9x7.2mm, Pitch 2.54mm)
pins: 1 ~{OE} (in) "Output Enable", 2 1Q (hiz) "1Q Output", 3 1D (in) "1D Input", 4 2D (in) "2D Input", 5 2Q (hiz) "2Q Output", 6 3Q (hiz) "3Q Output", 7 3D (in) "3D Input", 8 4D (in) "4D Input", 9 4Q (hiz) "4Q Output", 10 GND (power) "Ground Pin", 11 LE (in) "Latch Enable", 12 5Q (hiz) "5Q Output", 13 5D (in) "5D Input", 14 6D (in) "6D Input", 15 6Q (hiz) "6Q Output", 16 7Q (hiz) "7Q Output", 17 7D (in) "7D Input", 18 8D (in) "8D Input", 19 8Q (hiz) "8Q Output", 20 VCC (power) "Power Pin"

## SNJ54ACT373W
designator U?
Octal D-type Transparent Latches With 3-State Outputs, W0020A, TUBE; Generic Part Number: SN54ACT373; Manufacturer: Texas Instruments; PartNumber: SNJ54ACT373W; VCC(Min)(V): 4.5; VCC(Max)(V): 5.5; Output Type: CMOS; Logic: True; ICC @ Nom Voltage(Max)(mA): 0.04; Input Type: TTL; Bits(#): 8; F @ Nom Voltage(Max)(Mhz): 90; Rating: Military; Technology Family: ACT; Schmitt Trigger: No; Output Drive (IOL/IOH)(Max)(mA): 24/-24; Output Logic: Non-inverted; 3-State Output: Yes; tpd @ Nom Voltage(Max)(ns): 11.5; DatasheetVersion: SCAS544E; PackageReference: W0020A; Operating Temperature Range(C): -55 to 125; ComponentLink1Description: Manufacturer URL; ComponentLink1URL: http://www.ti.com/; ComponentLink2Description: Datasheet; ComponentLink2URL: http://www.ti.com/lit/ds/symlink/sn54act373.pdf; ComponentLink3Description: Package Specification; ComponentLink3URL: http://www.ti.com/lit/ml/mcfp006d/mcfp006d.pdf
footprint W0020A_N (CFP, 20-Leads, Body 13.72x7.62mm, Pitch 1.27mm, IPC Medium Density)
footprint W0020A_M (CFP, 20-Leads, Body 13.72x7.62mm, Pitch 1.27mm, IPC Low Density)
footprint W0020A_L (CFP, 20-Leads, Body 13.72x7.62mm, Pitch 1.27mm, IPC High Density)
pins: 1 ~{OE} (in) "Output Enable", 2 1Q (hiz) "1Q Output", 3 1D (in) "1D Input", 4 2D (in) "2D Input", 5 2Q (hiz) "2Q Output", 6 3Q (hiz) "3Q Output", 7 3D (in) "3D Input", 8 4D (in) "4D Input", 9 4Q (hiz) "4Q Output", 10 GND (power) "Ground Pin", 11 LE (in) "Latch Enable", 12 5Q (hiz) "5Q Output", 13 5D (in) "5D Input", 14 6D (in) "6D Input", 15 6Q (hiz) "6Q Output", 16 7Q (hiz) "7Q Output", 17 7D (in) "7D Input", 18 8D (in) "8D Input", 19 8Q (hiz) "8Q Output", 20 VCC (power) "Power Pin"

## SNJ54ACT374FK
designator U?
Octal D-type Edge-Triggered Flip-Flops With 3-State Outputs, FK0020A, TUBE; Generic Part Number: SN54ACT374; Manufacturer: Texas Instruments; PartNumber: SNJ54ACT374FK; VCC(Min)(V): 4.5; VCC(Max)(V): 5.5; Output Type: CMOS; ICC @ Nom Voltage(Max)(mA): 0.04; Input Type: TTL; Bits(#): 8; F @ Nom Voltage(Max)(Mhz): 90; Rating: Military; Technology Family: ACT; Schmitt Trigger: No; Output Drive (IOL/IOH)(Max)(mA): 24/-24; Output Logic: Non-inverted; 3-State Output: Yes; tpd @ Nom Voltage(Max)(ns): 11.5; DatasheetVersion: SCAS539F; PackageReference: FK0020A; Operating Temperature Range(C): -55 to 125; Code_JEDEC: MS-004; ComponentLink1Description: Manufacturer URL; ComponentLink1URL: http://www.ti.com/; ComponentLink2Description: Datasheet; ComponentLink2URL: http://www.ti.com/lit/ds/symlink/sn54act374.pdf; ComponentLink3Description: Package Specification; ComponentLink3URL: http://www.ti.com/lit/ml/mlcc006d/mlcc006d.pdf
footprint FK0020A_N (LCC, 20-Leads, Body 8.9x8.9mm, Pitch 1.27mm, IPC Medium Density)
footprint FK0020A_M (LCC, 20-Leads, Body 8.9x8.9mm, Pitch 1.27mm, IPC Low Density)
footprint FK0020A_L (LCC, 20-Leads, Body 8.9x8.9mm, Pitch 1.27mm, IPC High Density)
part A pins: 1 OE (in), 2 1Q (hiz), 3 1D (in), 4 2D (in), 5 2Q (hiz), 6 3Q (hiz), 7 3D (in), 8 4D (in), 9 4Q (hiz), 11 CLK (in), 12 5Q (hiz), 13 5D (in), 14 6D (in), 15 6Q (hiz), 16 7Q (hiz), 17 7D (in), 18 8D (in), 19 8Q (hiz)
part B pins: 10 GND (power), 20 VCC (power)

## SNJ54ACT374J
designator U?
Octal D-type Edge-Triggered Flip-Flops With 3-State Outputs, J0020A, TUBE; Generic Part Number: SN54ACT374; Manufacturer: Texas Instruments; PartNumber: SNJ54ACT374J; VCC(Min)(V): 4.5; VCC(Max)(V): 5.5; Output Type: CMOS; ICC @ Nom Voltage(Max)(mA): 0.04; Input Type: TTL; Bits(#): 8; F @ Nom Voltage(Max)(Mhz): 90; Rating: Military; Technology Family: ACT; Schmitt Trigger: No; Output Drive (IOL/IOH)(Max)(mA): 24/-24; Output Logic: Non-inverted; 3-State Output: Yes; tpd @ Nom Voltage(Max)(ns): 11.5; DatasheetVersion: SCAS539F; PackageReference: J0020A; Operating Temperature Range(C): -55 to 125; ComponentLink1Description: Manufacturer URL; ComponentLink1URL: http://www.ti.com/; ComponentLink2Description: Datasheet; ComponentLink2URL: http://www.ti.com/lit/ds/symlink/sn54act374.pdf; ComponentLink3Description: Package Specification; ComponentLink3URL: http://www.ti.com/lit/ml/mcer002d/mcer002d.pdf
footprint J0020A (DIP, 20-Leads, Body 26.9x7.2mm, Pitch 2.54mm)
part A pins: 1 OE (in), 2 1Q (hiz), 3 1D (in), 4 2D (in), 5 2Q (hiz), 6 3Q (hiz), 7 3D (in), 8 4D (in), 9 4Q (hiz), 11 CLK (in), 12 5Q (hiz), 13 5D (in), 14 6D (in), 15 6Q (hiz), 16 7Q (hiz), 17 7D (in), 18 8D (in), 19 8Q (hiz)
part B pins: 10 GND (power), 20 VCC (power)

## SNJ54ACT374W
designator U?
Octal D-type Edge-Triggered Flip-Flops With 3-State Outputs, W0020A, TUBE; Generic Part Number: SN54ACT374; Manufacturer: Texas Instruments; PartNumber: SNJ54ACT374W; VCC(Min)(V): 4.5; VCC(Max)(V): 5.5; Output Type: CMOS; ICC @ Nom Voltage(Max)(mA): 0.04; Input Type: TTL; Bits(#): 8; F @ Nom Voltage(Max)(Mhz): 90; Rating: Military; Technology Family: ACT; Schmitt Trigger: No; Output Drive (IOL/IOH)(Max)(mA): 24/-24; Output Logic: Non-inverted; 3-State Output: Yes; tpd @ Nom Voltage(Max)(ns): 11.5; DatasheetVersion: SCAS539F; PackageReference: W0020A; Operating Temperature Range(C): -55 to 125; ComponentLink1Description: Manufacturer URL; ComponentLink1URL: http://www.ti.com/; ComponentLink2Description: Datasheet; ComponentLink2URL: http://www.ti.com/lit/ds/symlink/sn54act374.pdf; ComponentLink3Description: Package Specification; ComponentLink3URL: http://www.ti.com/lit/ml/mcfp006d/mcfp006d.pdf
footprint W0020A_N (CFP, 20-Leads, Body 13.72x7.62mm, Pitch 1.27mm, IPC Medium Density)
footprint W0020A_M (CFP, 20-Leads, Body 13.72x7.62mm, Pitch 1.27mm, IPC Low Density)
footprint W0020A_L (CFP, 20-Leads, Body 13.72x7.62mm, Pitch 1.27mm, IPC High Density)
part A pins: 1 OE (in), 2 1Q (hiz), 3 1D (in), 4 2D (in), 5 2Q (hiz), 6 3Q (hiz), 7 3D (in), 8 4D (in), 9 4Q (hiz), 11 CLK (in), 12 5Q (hiz), 13 5D (in), 14 6D (in), 15 6Q (hiz), 16 7Q (hiz), 17 7D (in), 18 8D (in), 19 8Q (hiz)
part B pins: 10 GND (power), 20 VCC (power)

## SNJ54ACT573FK
designator U?
Octal D-type Transparent Latches With 3-State Outputs, FK0020A, TUBE; Generic Part Number: SN54ACT573; Manufacturer: Texas Instruments; PartNumber: SNJ54ACT573FK; VCC(Min)(V): 4.5; VCC(Max)(V): 5.5; Output Type: CMOS; Logic: True; ICC @ Nom Voltage(Max)(mA): 0.04; Input Type: TTL; Bits(#): 8; F @ Nom Voltage(Max)(Mhz): 90; Rating: Military; Technology Family: ACT; Schmitt Trigger: No; Output Drive (IOL/IOH)(Max)(mA): 24/-24; Output Logic: Inverted; 3-State Output: Yes; tpd @ Nom Voltage(Max)(ns): 12; DatasheetVersion: SCAS538D; PackageReference: FK0020A; Operating Temperature Range(C): -55 to 125; Code_JEDEC: MS-004; ComponentLink1Description: Manufacturer URL; ComponentLink1URL: http://www.ti.com/; ComponentLink2Description: Datasheet; ComponentLink2URL: http://www.ti.com/lit/ds/symlink/sn54act573.pdf; ComponentLink3Description: Package Specification; ComponentLink3URL: http://www.ti.com/lit/ml/mlcc006d/mlcc006d.pdf
footprint FK0020A_N (LCC, 20-Leads, Body 8.9x8.9mm, Pitch 1.27mm, IPC Medium Density)
footprint FK0020A_M (LCC, 20-Leads, Body 8.9x8.9mm, Pitch 1.27mm, IPC Low Density)
footprint FK0020A_L (LCC, 20-Leads, Body 8.9x8.9mm, Pitch 1.27mm, IPC High Density)
pins: 1 ~{OE} (in), 2 1D (in), 3 2D (in), 4 3D (in), 5 4D (in), 6 5D (in), 7 6D (in), 8 7D (in), 9 8D (in), 10 GND (power), 11 LE (in), 12 8Q (hiz), 13 7Q (hiz), 14 6Q (hiz), 15 5Q (hiz), 16 4Q (hiz), 17 3Q (hiz), 18 2Q (hiz), 19 1Q (hiz), 20 VCC (power)

## SNJ54ACT573J
designator U?
Octal D-type Transparent Latches With 3-State Outputs, J0020A, TUBE; Generic Part Number: SN54ACT573; Manufacturer: Texas Instruments; PartNumber: SNJ54ACT573J; VCC(Min)(V): 4.5; VCC(Max)(V): 5.5; Output Type: CMOS; Logic: True; ICC @ Nom Voltage(Max)(mA): 0.04; Input Type: TTL; Bits(#): 8; F @ Nom Voltage(Max)(Mhz): 90; Rating: Military; Technology Family: ACT; Schmitt Trigger: No; Output Drive (IOL/IOH)(Max)(mA): 24/-24; Output Logic: Inverted; 3-State Output: Yes; tpd @ Nom Voltage(Max)(ns): 12; DatasheetVersion: SCAS538D; PackageReference: J0020A; Operating Temperature Range(C): -55 to 125; ComponentLink1Description: Manufacturer URL; ComponentLink1URL: http://www.ti.com/; ComponentLink2Description: Datasheet; ComponentLink2URL: http://www.ti.com/lit/ds/symlink/sn54act573.pdf; ComponentLink3Description: Package Specification; ComponentLink3URL: http://www.ti.com/lit/ml/mcer002d/mcer002d.pdf
footprint J0020A (DIP, 20-Leads, Body 26.9x7.2mm, Pitch 2.54mm)
pins: 1 ~{OE} (in), 2 1D (in), 3 2D (in), 4 3D (in), 5 4D (in), 6 5D (in), 7 6D (in), 8 7D (in), 9 8D (in), 10 GND (power), 11 LE (in), 12 8Q (hiz), 13 7Q (hiz), 14 6Q (hiz), 15 5Q (hiz), 16 4Q (hiz), 17 3Q (hiz), 18 2Q (hiz), 19 1Q (hiz), 20 VCC (power)

## SNJ54ACT573W
designator U?
Octal D-type Transparent Latches With 3-State Outputs, W0020A, TUBE; Generic Part Number: SN54ACT573; Manufacturer: Texas Instruments; PartNumber: SNJ54ACT573W; VCC(Min)(V): 4.5; VCC(Max)(V): 5.5; Output Type: CMOS; Logic: True; ICC @ Nom Voltage(Max)(mA): 0.04; Input Type: TTL; Bits(#): 8; F @ Nom Voltage(Max)(Mhz): 90; Rating: Military; Technology Family: ACT; Schmitt Trigger: No; Output Drive (IOL/IOH)(Max)(mA): 24/-24; Output Logic: Inverted; 3-State Output: Yes; tpd @ Nom Voltage(Max)(ns): 12; DatasheetVersion: SCAS538D; PackageReference: W0020A; Operating Temperature Range(C): -55 to 125; ComponentLink1Description: Manufacturer URL; ComponentLink1URL: http://www.ti.com/; ComponentLink2Description: Datasheet; ComponentLink2URL: http://www.ti.com/lit/ds/symlink/sn54act573.pdf; ComponentLink3Description: Package Specification; ComponentLink3URL: http://www.ti.com/lit/ml/mcfp006d/mcfp006d.pdf
footprint W0020A_N (CFP, 20-Leads, Body 13.72x7.62mm, Pitch 1.27mm, IPC Medium Density)
footprint W0020A_M (CFP, 20-Leads, Body 13.72x7.62mm, Pitch 1.27mm, IPC Low Density)
footprint W0020A_L (CFP, 20-Leads, Body 13.72x7.62mm, Pitch 1.27mm, IPC High Density)
pins: 1 ~{OE} (in), 2 1D (in), 3 2D (in), 4 3D (in), 5 4D (in), 6 5D (in), 7 6D (in), 8 7D (in), 9 8D (in), 10 GND (power), 11 LE (in), 12 8Q (hiz), 13 7Q (hiz), 14 6Q (hiz), 15 5Q (hiz), 16 4Q (hiz), 17 3Q (hiz), 18 2Q (hiz), 19 1Q (hiz), 20 VCC (power)

## SNJ54ACT16373WD
designator U?
16-BIT D-TYPE TRANSPARENT LATCHES WITH 3-STATE OUTPUTS, WD0048A, TUBE; Generic Part Number: SN54ACT16373; Manufacturer: Texas Instruments; PartNumber: SNJ54ACT16373WD; Rating: Military; Technology Family: ACT; Schmitt Trigger: No; DatasheetVersion: SCAS122C; PackageReference: WD0048A; Operating Temperature Range(C): -55 to 125; ComponentLink1Description: Manufacturer URL; ComponentLink1URL: http://www.ti.com/; ComponentLink2Description: Datasheet; ComponentLink2URL: http://www.ti.com/lit/ds/symlink/sn54act16373.pdf; ComponentLink3Description: Package Specification; ComponentLink3URL: http://www.ti.com/lit/ml/mcfp010b/mcfp010b.pdf
footprint WD0048A_N (CFP, 48-Leads, Body 18.03x9.91mm, Pitch 0.635mm, IPC Medium Density)
footprint WD0048A_M (CFP, 48-Leads, Body 18.03x9.91mm, Pitch 0.635mm, IPC Low Density)
footprint WD0048A_L (CFP, 48-Leads, Body 18.03x9.91mm, Pitch 0.635mm, IPC High Density)
part A pins: 1 1~{OE} (in), 2 1Q1 (hiz), 3 1Q2 (hiz), 5 1Q3 (hiz), 6 1Q4 (hiz), 8 1Q5 (hiz), 9 1Q6 (hiz), 11 1Q7 (hiz), 12 1Q8 (hiz), 37 1D8 (in), 38 1D7 (in), 40 1D6 (in), 41 1D5 (in), 43 1D4 (in), 44 1D3 (in), 46 1D2 (in), 47 1D1 (in), 48 1C (in)
part B pins: 13 2Q1 (hiz), 14 2Q2 (hiz), 16 2Q3 (hiz), 17 2Q4 (hiz), 19 2Q5 (hiz), 20 2Q6 (hiz), 22 2Q7 (hiz), 23 2Q8 (hiz), 24 2~{OE} (in), 25 2C (in), 26 2D8 (in), 27 2D7 (in), 29 2D6 (in), 30 2D5 (in), 32 2D4 (in), 33 2D3 (in), 35 2D2 (in), 36 2D1 (in)
part C pins: 4 GND (power), 7 VCC (power), 10 GND (power), 15 GND (power), 18 VCC (power), 21 GND (power), 28 GND (power), 31 VCC (power), 34 GND (power), 39 GND (power), 42 VCC (power), 45 GND (power)

## SNJ54ACT16374WD
designator U?
16-Bit D-type Edge-Triggered Flip-Flops With 3-State Outputs, WD0048A, TUBE; Generic Part Number: SN54ACT16374; Manufacturer: Texas Instruments; PartNumber: SNJ54ACT16374WD; Rating: Military; Technology Family: ACT; Schmitt Trigger: No; DatasheetVersion: SCAS124B; PackageReference: WD0048A; Operating Temperature Range(C): -55 to 125; ComponentLink1Description: Manufacturer URL; ComponentLink1URL: http://www.ti.com/; ComponentLink2Description: Datasheet; ComponentLink2URL: http://www.ti.com/lit/ds/symlink/sn54act16374.pdf; ComponentLink3Description: Package Specification; ComponentLink3URL: http://www.ti.com/lit/ml/mcfp010b/mcfp010b.pdf
footprint WD0048A_N (CFP, 48-Leads, Body 18.03x9.91mm, Pitch 0.635mm, IPC Medium Density)
footprint WD0048A_M (CFP, 48-Leads, Body 18.03x9.91mm, Pitch 0.635mm, IPC Low Density)
footprint WD0048A_L (CFP, 48-Leads, Body 18.03x9.91mm, Pitch 0.635mm, IPC High Density)
part A pins: 1 1OE (in), 2 1Q1 (hiz), 3 1Q2 (hiz), 5 1Q3 (hiz), 6 1Q4 (hiz), 8 1Q5 (hiz), 9 1Q6 (hiz), 11 1Q7 (hiz), 12 1Q8 (hiz), 37 1D8 (in), 38 1D7 (in), 40 1D6 (in), 41 1D5 (in), 43 1D4 (in), 44 1D3 (in), 46 1D2 (in), 47 1D1 (in), 48 1CLK (in)
part B pins: 13 2Q1 (hiz), 14 2Q2 (hiz), 16 2Q3 (hiz), 17 2Q4 (hiz), 19 2Q5 (hiz), 20 2Q6 (hiz), 22 2Q7 (hiz), 23 2Q8 (hiz), 24 2OE (in), 25 2CLK (in), 26 2D8 (in), 27 2D7 (in), 29 2D6 (in), 30 2D5 (in), 32 2D4 (in), 33 2D3 (in), 35 2D2 (in), 36 2D1 (in)
part C pins: 4 GND (power), 7 VCC (power), 10 GND (power), 15 GND (power), 18 VCC (power), 21 GND (power), 28 GND (power), 31 VCC (power), 34 GND (power), 39 GND (power), 42 VCC (power), 45 GND (power)

## SNJ54AHC74FK
designator U?
Dual Positive-Edge-Triggered D-type Flip-Flops With Clear And Preset, FK0020A, TUBE; Generic Part Number: SN54AHC74; Manufacturer: Texas Instruments; PartNumber: SNJ54AHC74FK; VCC(Min)(V): 2; VCC(Max)(V): 5.5; Output Type: CMOS; ICC @ Nom Voltage(Max)(mA): 0.02; F @ Nom Voltage(Max)(Mhz): 100; Rating: Military; Technology Family: AHC; Voltage(Nom)(V): 3.3,5; Schmitt Trigger: No; Output Drive (IOL/IOH)(Max)(mA): 50/-50; Output Logic: Inverted,Non-inverted; tpd @ Nom Voltage(Max)(ns): 17.5,10.5; DatasheetVersion: SCLS255K; PackageReference: FK0020A; Input Type: CMOS; Bits(#): 2; Operating Temperature Range(C): -55 to 125; 3-State Output: No; Code_JEDEC: MS-004; ComponentLink1Description: Manufacturer URL; ComponentLink1URL: http://www.ti.com/; ComponentLink2Description: Datasheet; ComponentLink2URL: http://www.ti.com/lit/ds/symlink/sn54ahc74.pdf; ComponentLink3Description: Package Specification; ComponentLink3URL: http://www.ti.com/lit/ml/mlcc006d/mlcc006d.pdf
footprint FK0020A_N (LCC, 20-Leads, Body 8.9x8.9mm, Pitch 1.27mm, IPC Medium Density)
footprint FK0020A_M (LCC, 20-Leads, Body 8.9x8.9mm, Pitch 1.27mm, IPC Low Density)
footprint FK0020A_L (LCC, 20-Leads, Body 8.9x8.9mm, Pitch 1.27mm, IPC High Density)
part A pins: 2 1~{CLR} (in), 3 1D (in), 4 1CLK (in), 6 1~{PRE} (in), 8 1Q (out), 9 1Q (out)
part B pins: 12 2Q (out), 13 2Q (out), 14 2~{PRE} (in), 16 2CLK (in), 18 2D (in), 19 2~{CLR} (in)
part C pins: 10 GND (power), 20 VCC (power)
part D pins: 1 NC, 5 NC, 7 NC, 11 NC, 15 NC, 17 NC
part A text: PRE; CLR
part B text: PRE; CLR

## SNJ54AHC74J
designator U?
Dual Positive-Edge-Triggered D-type Flip-Flops With Clear And Preset, J0014A, TUBE; Generic Part Number: SN54AHC74; Manufacturer: Texas Instruments; PartNumber: SNJ54AHC74J; VCC(Min)(V): 2; VCC(Max)(V): 5.5; Output Type: CMOS; ICC @ Nom Voltage(Max)(mA): 0.02; F @ Nom Voltage(Max)(Mhz): 100; Rating: Military; Technology Family: AHC; Voltage(Nom)(V): 3.3,5; Schmitt Trigger: No; Output Drive (IOL/IOH)(Max)(mA): 50/-50; Output Logic: Inverted,Non-inverted; tpd @ Nom Voltage(Max)(ns): 17.5,10.5; DatasheetVersion: SCLS255K; PackageReference: J0014A; Input Type: CMOS; Bits(#): 2; Operating Temperature Range(C): -55 to 125; 3-State Output: No; ComponentLink1Description: Manufacturer URL; ComponentLink1URL: http://www.ti.com/; ComponentLink2Description: Datasheet; ComponentLink2URL: http://www.ti.com/lit/ds/symlink/sn54ahc74.pdf; ComponentLink3Description: Package Specification; ComponentLink3URL: http://www.ti.com/lit/ml/mcer002d/mcer002d.pdf
footprint J0014A (DIP, 14-Leads, Body 19.95x7.2mm, Pitch 2.54mm)
part A pins: 1 1~{CLR} (in), 2 1D (in), 3 1CLK (in), 4 1~{PRE} (in), 5 1Q (out), 6 1Q (out)
part B pins: 8 2Q (out), 9 2Q (out), 10 2~{PRE} (in), 11 2CLK (in), 12 2D (in), 13 2~{CLR} (in)
part C pins: 7 GND (power), 14 VCC (power)
part A text: PRE; CLR
part B text: PRE; CLR

## SNJ54AHC74W
designator U?
Dual Positive-Edge-Triggered D-type Flip-Flops With Clear And Preset, W0014A, TUBE; Generic Part Number: SN54AHC74; Manufacturer: Texas Instruments; PartNumber: SNJ54AHC74W; VCC(Min)(V): 2; VCC(Max)(V): 5.5; Output Type: CMOS; ICC @ Nom Voltage(Max)(mA): 0.02; F @ Nom Voltage(Max)(Mhz): 100; Rating: Military; Technology Family: AHC; Voltage(Nom)(V): 3.3,5; Schmitt Trigger: No; Output Drive (IOL/IOH)(Max)(mA): 50/-50; Output Logic: Inverted,Non-inverted; tpd @ Nom Voltage(Max)(ns): 17.5,10.5; DatasheetVersion: SCLS255K; PackageReference: W0014A; Input Type: CMOS; Bits(#): 2; Operating Temperature Range(C): -55 to 125; 3-State Output: No; ComponentLink1Description: Manufacturer URL; ComponentLink1URL: http://www.ti.com/; ComponentLink2Description: Datasheet; ComponentLink2URL: http://www.ti.com/lit/ds/symlink/sn54ahc74.pdf; ComponentLink3Description: Package Specification; ComponentLink3URL: http://www.ti.com/lit/ml/mcfp002c/mcfp002c.pdf
footprint W0014A_N (CFP, 14-Leads, Body 9.91x6.6mm, Pitch 1.27mm, IPC Medium Density)
footprint W0014A_M (CFP, 14-Leads, Body 9.91x6.6mm, Pitch 1.27mm, IPC Low Density)
footprint W0014A_L (CFP, 14-Leads, Body 9.91x6.6mm, Pitch 1.27mm, IPC High Density)
part A pins: 1 1~{CLR} (in), 2 1D (in), 3 1CLK (in), 4 1~{PRE} (in), 5 1Q (out), 6 1Q (out)
part B pins: 8 2Q (out), 9 2Q (out), 10 2~{PRE} (in), 11 2CLK (in), 12 2D (in), 13 2~{CLR} (in)
part C pins: 7 GND (power), 14 VCC (power)
part A text: PRE; CLR
part B text: PRE; CLR

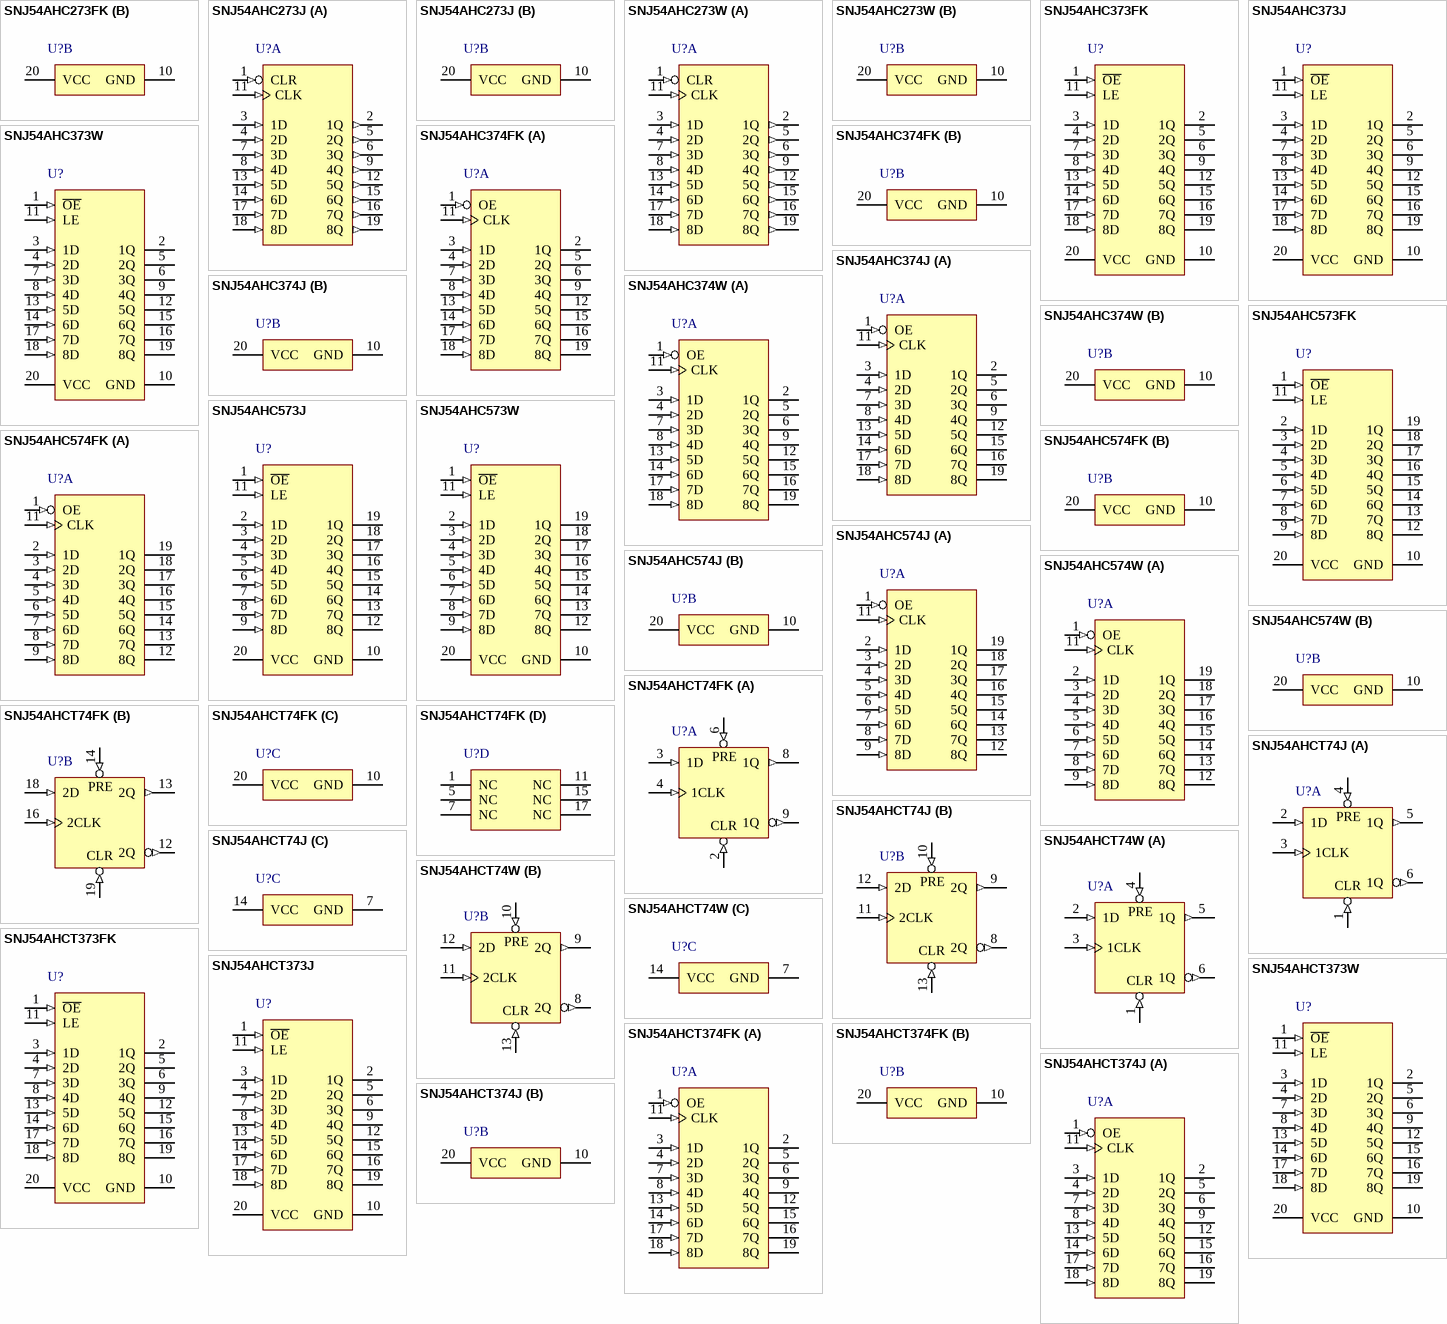
[diagram p124: symbols SNJ54AHC273FK to SNJ54AHCT374J]

## SNJ54AHC273FK
designator U?
Octal D-type Flip-Flops With Clear, FK0020A, TUBE; Generic Part Number: SN54AHC273; Manufacturer: Texas Instruments; PartNumber: SNJ54AHC273FK; VCC(Min)(V): 2; VCC(Max)(V): 5.5; Output Type: CMOS; ICC @ Nom Voltage(Max)(mA): 0.04; Bits(#): 8; F @ Nom Voltage(Max)(Mhz): 110; Rating: Military; Technology Family: AHC; Voltage(Nom)(V): 3.3,5; Schmitt Trigger: Yes; Output Drive (IOL/IOH)(Max)(mA): 50/-50; Output Logic: Non-inverted; 3-State Output: No; tpd @ Nom Voltage(Max)(ns): 19.5,12.5; DatasheetVersion: SCLS376I; PackageReference: FK0020A; Input Type: CMOS; Operating Temperature Range(C): -55 to 125; Code_JEDEC: MS-004; ComponentLink1Description: Manufacturer URL; ComponentLink1URL: http://www.ti.com/; ComponentLink2Description: Datasheet; ComponentLink2URL: http://www.ti.com/lit/ds/symlink/sn54ahc273.pdf; ComponentLink3Description: Package Specification; ComponentLink3URL: http://www.ti.com/lit/ml/mlcc006d/mlcc006d.pdf
footprint FK0020A_N (LCC, 20-Leads, Body 8.9x8.9mm, Pitch 1.27mm, IPC Medium Density)
footprint FK0020A_M (LCC, 20-Leads, Body 8.9x8.9mm, Pitch 1.27mm, IPC Low Density)
footprint FK0020A_L (LCC, 20-Leads, Body 8.9x8.9mm, Pitch 1.27mm, IPC High Density)
part A pins: 1 CLR (in) "Clear Pin", 2 1Q (out) "1Q Output", 3 1D (in) "1D Input", 4 2D (in) "2D Input", 5 2Q (out) "2Q Output", 6 3Q (out) "3Q Output", 7 3D (in) "3D Input", 8 4D (in) "4D Input", 9 4Q (out) "4Q Output", 11 CLK (in) "Clock Pin", 12 5Q (out) "5Q Output", 13 5D (in) "5D Input", 14 6D (in) "6D Input", 15 6Q (out) "6Q Output", 16 7Q (out) "7Q Output", 17 7D (in) "7D Input", 18 8D (in) "8D Input", 19 8Q (out) "8Q Output"
part B pins: 10 GND (power) "Ground Pin", 20 VCC (power) "Power Pin"

## SNJ54AHC273J
designator U?
Octal D-type Flip-Flops With Clear, J0020A, TUBE; Generic Part Number: SN54AHC273; Manufacturer: Texas Instruments; PartNumber: SNJ54AHC273J; VCC(Min)(V): 2; VCC(Max)(V): 5.5; Output Type: CMOS; ICC @ Nom Voltage(Max)(mA): 0.04; Bits(#): 8; F @ Nom Voltage(Max)(Mhz): 110; Rating: Military; Technology Family: AHC; Voltage(Nom)(V): 3.3,5; Schmitt Trigger: Yes; Output Drive (IOL/IOH)(Max)(mA): 50/-50; Output Logic: Non-inverted; 3-State Output: No; tpd @ Nom Voltage(Max)(ns): 19.5,12.5; DatasheetVersion: SCLS376I; PackageReference: J0020A; Input Type: CMOS; Operating Temperature Range(C): -55 to 125; ComponentLink1Description: Manufacturer URL; ComponentLink1URL: http://www.ti.com/; ComponentLink2Description: Datasheet; ComponentLink2URL: http://www.ti.com/lit/ds/symlink/sn54ahc273.pdf; ComponentLink3Description: Package Specification; ComponentLink3URL: http://www.ti.com/lit/ml/mcer002d/mcer002d.pdf
footprint J0020A (DIP, 20-Leads, Body 26.9x7.2mm, Pitch 2.54mm)
part A pins: 1 CLR (in) "Clear Pin", 2 1Q (out) "1Q Output", 3 1D (in) "1D Input", 4 2D (in) "2D Input", 5 2Q (out) "2Q Output", 6 3Q (out) "3Q Output", 7 3D (in) "3D Input", 8 4D (in) "4D Input", 9 4Q (out) "4Q Output", 11 CLK (in) "Clock Pin", 12 5Q (out) "5Q Output", 13 5D (in) "5D Input", 14 6D (in) "6D Input", 15 6Q (out) "6Q Output", 16 7Q (out) "7Q Output", 17 7D (in) "7D Input", 18 8D (in) "8D Input", 19 8Q (out) "8Q Output"
part B pins: 10 GND (power) "Ground Pin", 20 VCC (power) "Power Pin"